# Altium schematic symbol library MiscellaneousIC.schlib: 35 symbols
Pins are listed as number, name and electrical type; pins without a type are passive.

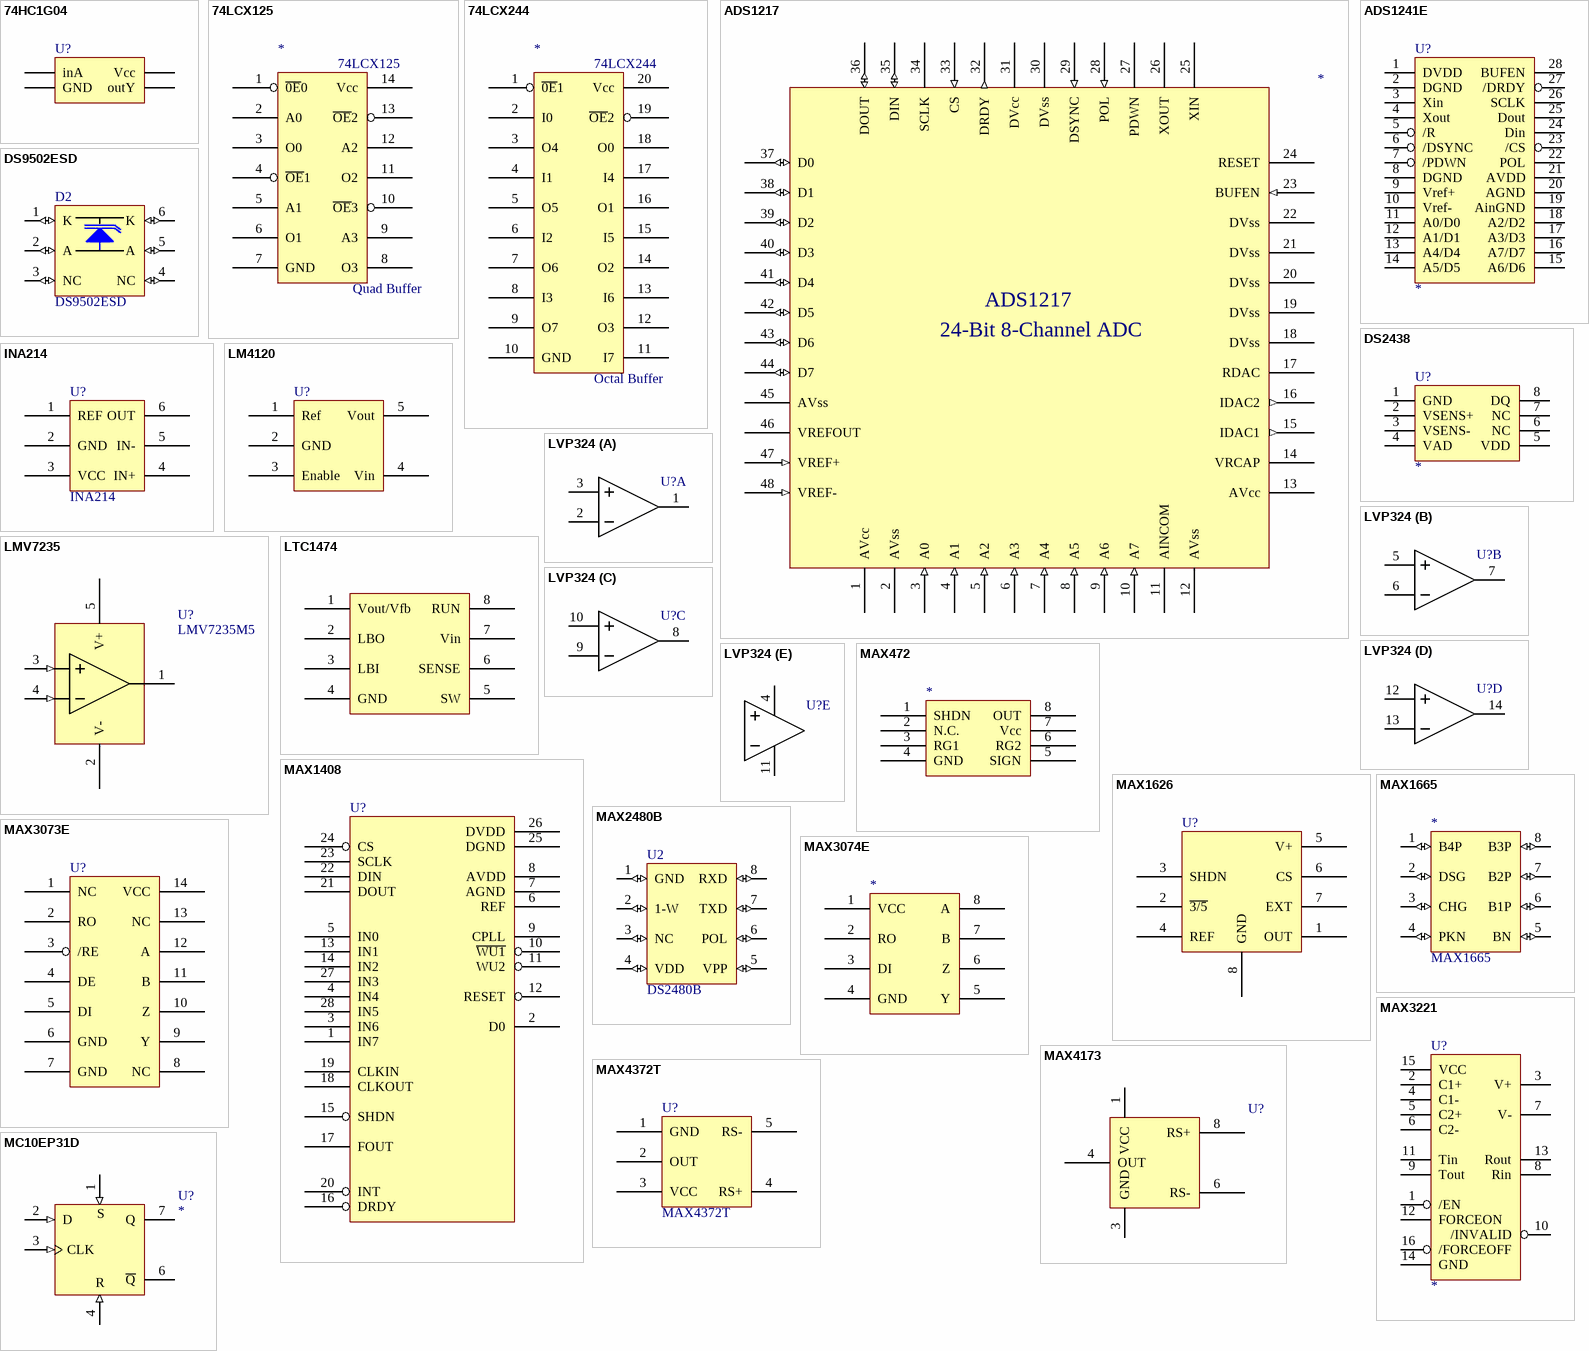
[diagram p0: symbols 74HC1G04 to MC10EP31D]

## 74HC1G04
designator U?
Single gate inverter
footprint SOT23(5)
pins: 2 inA, 3 GND, 4 outY, 5 Vcc

## 74LCX125
designator *
Quad Buffer; Manufacturer: Fairchild Semiconductor; Farnell: 111909
footprint SO14
pins: 1 ~{0E}0, 2 A0, 3 O0, 4 ~{OE}1, 5 A1, 6 O1, 7 GND (power), 8 O3, 9 A3, 10 ~{OE}3, 11 O2, 12 A2, 13 ~{OE}2, 14 Vcc (power)

## 74LCX244
designator *
Octal Buffer; Manufacturer: Fairchild Semiconductor; Farnell: 111909
footprint SO20/0.3
pins: 1 ~{0E}1, 2 I0, 3 O4, 4 I1, 5 O5, 6 I2, 7 O6, 8 I3, 9 O7, 10 GND (power), 11 I7, 12 O3, 13 I6, 14 O2, 15 I5, 16 O1, 17 I4, 18 O0, 19 ~{OE}2, 20 Vcc (power)

## ADS1217
designator *
24-Bit 8-Channel Analog-To-Digital Converter
footprint QFP48
pins: 1 AVcc (power) "Analog Power Supply", 2 AVss (power) "Analog Ground", 3 A0 (in) "Analog Input", 4 A1 (in) "Analog Input", 5 A2 (in) "Analog Input", 6 A3 (in) "Analog Input", 7 A4 (in) "Analog Input", 8 A5 (in) "Analog Input", 9 A6 (in) "Analog Input", 10 A7 (in) "Analog Input", 11 AINCOM "Analog Input Common", 12 AVss (power) "Analog Ground", 13 AVcc (power) "Analog Power Supply", 14 VRCAP "REFOUT Bypass Capacitor", 15 IDAC1 (out) "Current DAC1 Output", 16 IDAC2 (out) "Current DAC2 Output", 17 RDAC "Current DAC Resistor", 18 DVss (power) "Digital Ground", 19 DVss (power) "Digital Ground", 20 DVss (power) "Digital Ground", 21 DVss (power) "Digital Ground", 22 DVss (power) "Digital Ground", 23 BUFEN (in) "Buffer Enable Input", 24 RESET "Reset (active low)", 25 XIN "Clock Input", 26 XOUT "Clock Output", 27 PDWN "Power Down (active low)", 28 POL (in) "Serial Clock Polarity Output", 29 DSYNC (in) "Synchronisation Control Input (active low)", 30 DVss (power) "Digital Ground", 31 DVcc (power) "Digital Power Supply", 32 DRDY (out) "Data Ready (active low)", 33 CS (in) "Chip Select", 34 SCLK "Serial Clock", 35 DIN (io) "Serial Data In", 36 DOUT (io) "Serial Data Out", 37 D0 (io) "Digital I/O", 38 D1 (io) "Digital I/O", 39 D2 (io) "Digital I/O", 40 D3 (io) "Digital I/O", 41 D4 (io) "Digital I/O", 42 D5 (io) "Digital I/O", 43 D6 (io) "Digital I/O", 44 D7 (io) "Digital I/O", 45 AVss (power) "Analog Ground", 46 VREFOUT "Voltage Reference Output", 47 VREF+ (in) "Positive Reference Input", 48 VREF- (in) "Negative Reference Input"
text: 24-Bit 8-Channel ADC

## ADS1241E
designator U?
8 channel ADC with spi interface
footprint SOL-28
pins: 1 DVDD, 2 DGND, 3 Xin, 4 Xout, 5 /R, 6 /DSYNC, 7 /PDWN, 8 DGND, 9 Vref+, 10 Vref-, 11 A0/D0, 12 A1/D1, 13 A4/D4, 14 A5/D5, 15 A6/D6, 16 A7/D7, 17 A3/D3, 18 A2/D2, 19 AinGND, 20 AGND, 21 AVDD, 22 POL, 23 /CS, 24 Din, 25 Dout, 26 SCLK, 27 /DRDY, 28 BUFEN

## DS2438
designator U?
footprint SO8
pins: 1 GND, 2 VSENS+, 3 VSENS-, 4 VAD, 5 VDD, 6 NC, 7 NC, 8 DQ

## DS9502ESD
designator D2
ESD Protection Diode; Part Field 1: DS9502ESD
footprint TSOC
pins: 1 K (io), 2 A (io), 3 NC (io), 4 NC (io), 5 A (io), 6 K (io)

## INA214
designator U?
High / Low side Current Sensor; Farnell: 1606447
footprint SC70-6
pins: 1 REF, 2 GND, 3 VCC, 4 IN+, 5 IN-, 6 OUT

## LM4120
designator U?
Precision LDO voltage reference
footprint SOT23(5)
pins: 1 Ref, 2 GND, 3 Enable, 4 Vin, 5 Vout

## LMV7235
designator U?, comment LMV7235M5
Low Power Comparator, Open-Drain Output; Farnell: 355-0606
footprint SOT23(5)
pins: 1 Vout (oc), 2 V- (power), 3 Non-Inverting Input (in), 4 Inverting Input (in), 5 V+ (power)

## LTC1474
designator ?
Step-down converter
footprint TSOP8 (MS8 Family (MSOP8))
footprint SO8 (S8 Family)
pins: 1 Vout/Vfb, 2 LBO, 3 LBI, 4 GND, 5 SW, 6 SENSE, 7 Vin, 8 RUN

## LVP324
designator U?
Low Power Single Sided Quad Op-Amp
footprint DIP14
footprint TSSOP14
part A pins: 1 Output 1, 2 Inverting Input 1, 3 Non-Inverting Input 1
part B pins: 5 Non-Inverting Input 2, 6 Inverting Input 2, 7 Output 2
part C pins: 8 Output 3, 9 Inverting Input 3, 10 Non-Inverting Input 3
part D pins: 12 Non-Inverting Input 4, 13 Inverting Input 4, 14 Output 4
part E pins: 4 Vcc, 11 Vee

## MAX472
designator *
Precision Current Sense Amplifier with External Sense Resistor
footprint SO8
pins: 1 SHDN, 2 N.C., 3 RG1, 4 GND, 5 SIGN, 6 RG2, 7 Vcc, 8 OUT

## MAX1408
designator U?
ADC
footprint SSOP28
pins: 1 IN7, 2 D0, 3 IN6, 4 IN4, 5 IN0, 6 REF, 7 AGND, 8 AVDD, 9 CPLL, 10 ~{WU1}, 11 WU2, 12 RESET, 13 IN1, 14 IN2, 15 SHDN, 16 DRDY, 17 FOUT, 18 CLKOUT, 19 CLKIN, 20 INT, 21 DOUT, 22 DIN, 23 SCLK, 24 CS, 25 DGND, 26 DVDD, 27 IN3, 28 IN5

## MAX1626
designator U?
MAX1626
footprint SO8
pins: 1 OUT, 2 ~{3/5}, 3 SHDN, 4 REF, 5 V+, 6 CS, 7 EXT, 8 GND

## MAX1665
designator *
pins: 1 B4P (io), 2 DSG (io), 3 CHG (io), 4 PKN (io), 5 BN (io), 6 B1P (io), 7 B2P (io), 8 B3P (io)

## MAX2480B
designator U2, comment DS2480B
1-Wire to RS232 Converter; MAX2480B: MAX2480B
footprint SOIC8
footprint SO8
pins: 1 GND (io), 2 1-W (io), 3 NC (io), 4 VDD (io), 5 VPP (io), 6 POL (io), 7 TXD (io), 8 RXD (io)

## MAX3073E
designator U?
RS485/RS422 Transceiver
footprint DIP-8
footprint SOP8
pins: 1 NC, 2 RO, 3 /RE, 4 DE, 5 DI, 6 GND, 7 GND, 8 NC, 9 Y, 10 Z, 11 B, 12 A, 13 NC, 14 VCC

## MAX3074E
designator *
RS485/RS422 Transceiver
pins: 1 VCC, 2 RO, 3 DI, 4 GND, 5 Y, 6 Z, 7 B, 8 A

## MAX3221
designator U?
RS232 transceiver
footprint DIP-8
footprint SOP8
pins: 1 /EN, 2 C1+, 3 V+, 4 C1-, 5 C2+, 6 C2-, 7 V-, 8 Rin, 9 Tout, 10 /INVALID, 11 Tin, 12 FORCEON, 13 Rout, 14 GND, 15 VCC, 16 /FORCEOFF

## MAX4173
designator U?
footprint SO8
pins: 1 VCC, 3 GND, 4 OUT, 6 RS-, 8 RS+

## MAX4372T
designator U?
Current Sense Amplifier; Farnell: None; Digikey: MAX4372TEUK+TCT-ND; Price: 1.88
footprint SOT23-5
pins: 1 GND, 2 OUT, 3 VCC, 4 RS+, 5 RS-

## MC10EP31D
designator U?
D Flip-Flop with Set and Reset; Manufacturer: ON Semiconductor; Package Information: Latest Revision: Sep-1999; Class I: Logic; Published: 15-Apr-2002; Datasheet: Latest Revision: 1996; Package Reference: 751-06; Publisher: Altium Limited; Class II: Flip-Flop
footprint SO-G8
pins: 1 S (in), 2 D (in), 3 CLK (in), 4 R (in), 5 VEE (power) hidden to VEE, 6 ~{Q} (oe), 7 Q (oe), 8 VCC (power) hidden to VCC

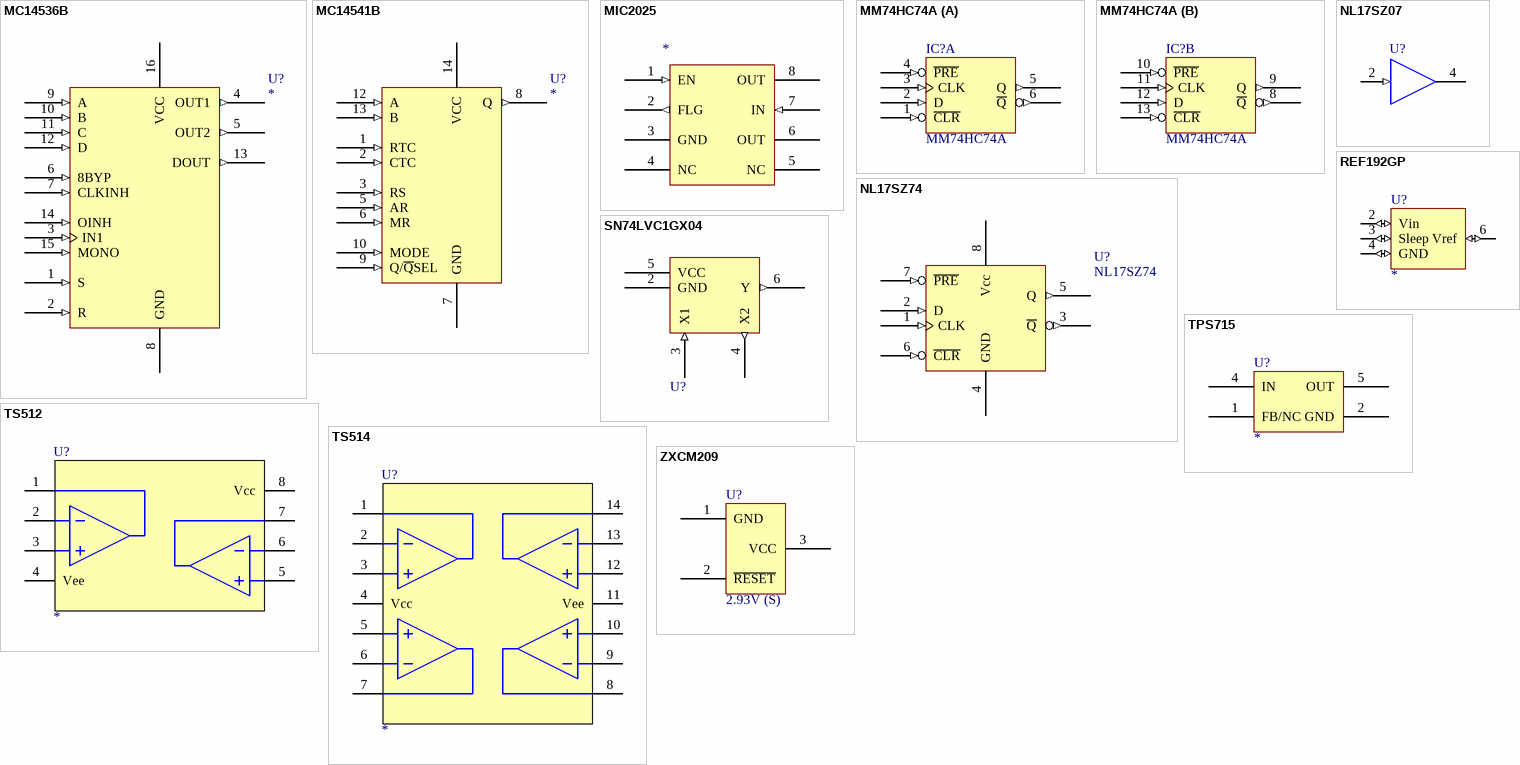
[diagram p1: symbols MC14536B to ZXCM209]

## MC14536B
designator U?
footprint DIP-16
pins: 1 S (in), 2 R (in), 3 IN1 (in), 4 OUT1 (out), 5 OUT2 (out), 6 8BYP (in), 7 CLKINH (in), 8 GND (power), 9 A (in), 10 B (in), 11 C (in), 12 D (in), 13 DOUT (out), 14 OINH (in), 15 MONO (in), 16 VCC (power)

## MC14541B
designator U?
footprint DIP-14
pins: 1 RTC (in), 2 CTC (in), 3 RS (in), 5 AR (in), 6 MR (in), 7 GND (power), 8 Q (out), 9 Q/~{Q}SEL (in), 10 MODE (in), 12 A (in), 13 B (in), 14 VCC (power)

## MIC2025
designator *
soft start switch
footprint SO8
pins: 1 EN (in), 2 FLG (out), 3 GND (power), 4 NC (power), 5 NC (power), 6 OUT, 7 IN (in), 8 OUT

## MM74HC74A
designator IC?
DUAL D PET FF RS CR
footprint SO14
footprint DIP-14
pins on every part: 7 GND (power) hidden to GND, 14 VCC (power) hidden to VCC
part A pins: 1 ~{CLR} (in), 2 D (in), 3 CLK (in), 4 ~{PRE} (in), 5 Q (out), 6 ~{Q} (out)
part B pins: 8 ~{Q} (out), 9 Q (out), 10 ~{PRE} (in), 11 CLK (in), 12 D (in), 13 ~{CLR} (in)
1 alternate drawing of the same symbol

## NL17SZ07
designator U?
Single Open Drain Buffer
footprint SC70-5
pins: 2 A (in), 3 GND hidden to GND3V3, 4 Y (oc), 5 VCC hidden to +3V3

## NL17SZ74
designator U?
Single D Flip Flop; Manufacturer: ON Semiconductor
footprint US8
pins: 1 CLK (in), 2 D (in), 3 ~{Q} (out), 4 GND (power), 5 Q (out), 6 ~{CLR} (in), 7 ~{PRE} (in), 8 Vcc (power)

## REF192GP
designator U?
2.5V Voltage reference
footprint DIP-8
pins: 2 Vin (io), 3 Sleep (io), 4 GND (io), 6 Vref (io)

## SN74LVC1GX04
designator U?  (value not drawn)
Crystal oscillator driver
footprint SOT23-6
pins: 1 NC (power) hidden, 2 GND (power), 3 X1 (in), 4 X2 (out), 5 VCC (power), 6 Y (out)

## TPS715
designator U?
Low quiescent power LDO Regulator; Farnell: *; Price: *
footprint DCK
pins: 1 FB/NC (power), 2 GND (power), 3 NC (power) hidden, 4 IN (power), 5 OUT (power)

## TS512
designator U?
High Speed Precision Dual Op-Amp
footprint DIP-8
pins: 1 Output 1, 2 Inverting Input 1, 3 Non-Inverting Input 1, 4 Vee, 5 Non-Inverting Input 2, 6 Inverting Input 2, 7 Output 2, 8 Vcc

## TS514
designator U?
High Speed Precision Quad Op-Amp
footprint DIP-14
pins: 1 Output 1, 2 Inverting Input 1, 3 Non-Inverting Input 1, 4 Vcc, 5 Non-Inverting Input 2, 6 Inverting Input 2, 7 Output 2, 8 Output 3, 9 Inverting Input 3, 10 Non-Inverting Input 3, 11 Vee, 12 Non-Inverting Input 4, 13 Inverting Input 4, 14 Output 4

## ZXCM209
designator U?, comment 2.93V (S)
Voltage Supervisor; Farnell: 384-7858
footprint SOT23(3) (3-pin SOT23)
pins: 1 GND (power), 2 ~{RESET} (power), 3 VCC (power)